# Altium schematic symbol library LIS2DUXS12TR.SchLib: 2 symbols
Pins are listed as number, name and electrical type; pins without a type are passive.

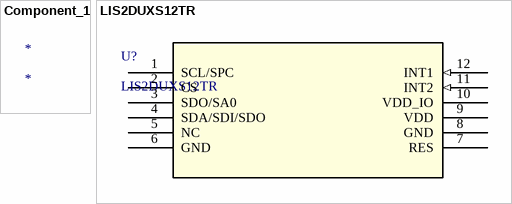
[diagram p0: symbols Component_1 to LIS2DUXS12TR]

## Component_1
designator *

## LIS2DUXS12TR
designator U?
No Description Available; Mfr_Name: STMicroelectronics; Type: DEV; Copyright: Copyright (C) 2023 Ultra Librarian. All rights reserved.; Manufacturer_Part_Number: LIS2DUXS12TR; RefDes: RefDes
footprint QFN_DUXS12_STM
pins: 1 SCL/SPC, 2 CS, 3 SDO/SA0, 4 SDA/SDI/SDO, 5 NC, 6 GND (power), 7 RES, 8 GND (power), 9 VDD (power), 10 VDD_IO (power), 11 INT2 (in), 12 INT1 (in)